# Altium schematic symbol library UWRT_Schematic_Library_2020.SchLib: 766 symbols (part 1 of 8)
Pins are listed as number, name and electrical type; pins without a type are passive.

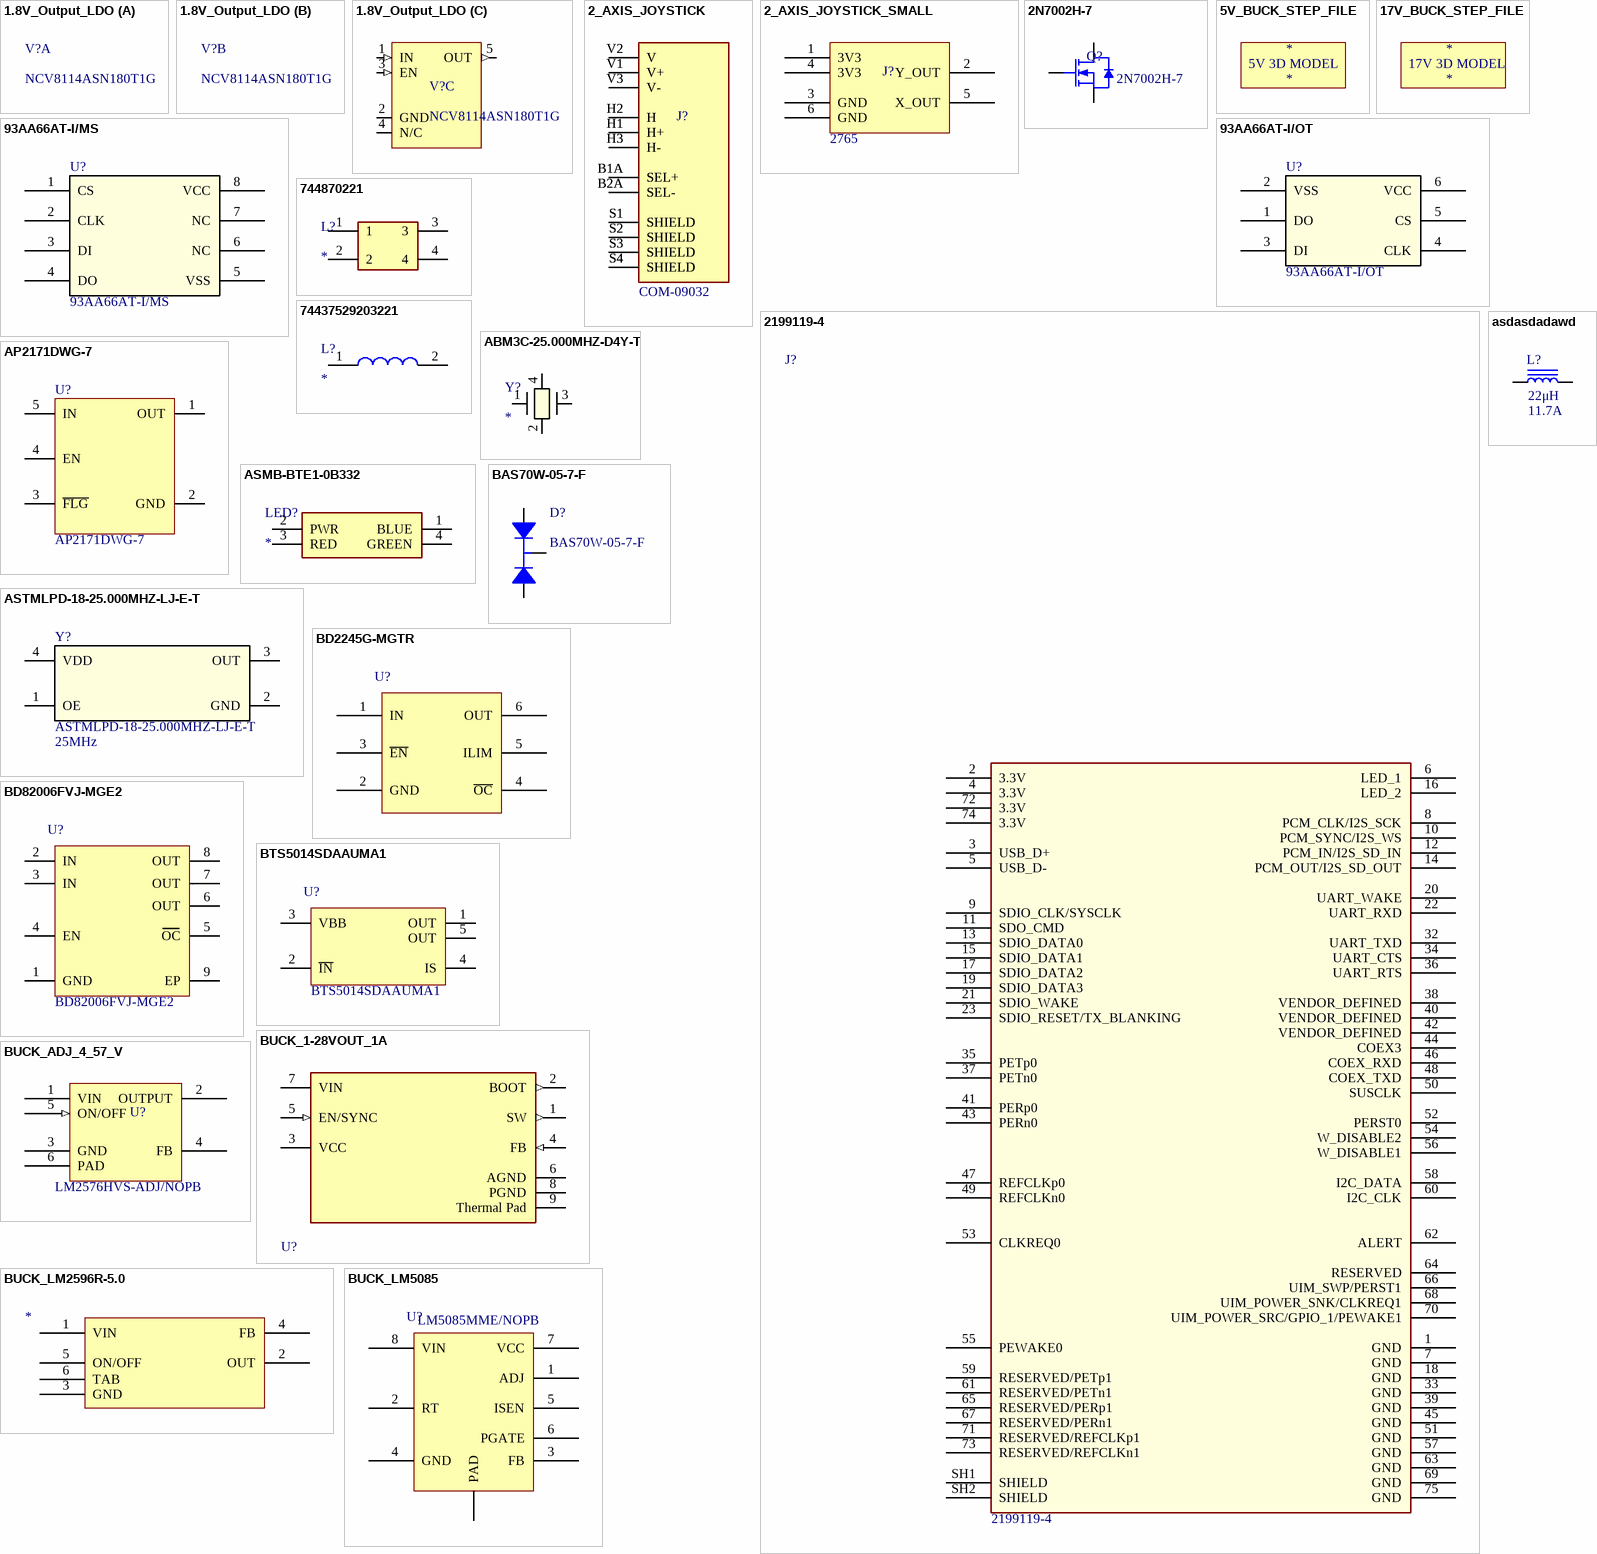
[diagram p0: symbols 1.8V_Output_LDO to BUCK_LM5085]

## 1.8V_Output_LDO
designator V?, comment NCV8114ASN180T1G
Linear Voltage Regulator IC Positive Fixed 1 Output 300mA 5-TSOP; Manufacture: onsemi; Output voltage: 1.8V; Manufacture part number: NCV8114ASN180T1G; Package: SOT-23-5 Thin, TSOT-23-5; Mounting type: Surface Mount; Supplier: Digikey; ComponentLink1Description: Datasheet; ComponentLink1URL: https://www.digikey.ca/en/products/detail/onsemi/NCV8114ASN180T1G/7066765
footprint 1.8V_Output_LDO (Linear Voltage Regulator IC Positive Fixed 1 Output 300mA 5-TSOP)
part C pins: 1 IN (in), 2 GND, 3 EN (in), 4 N/C, 5 OUT (out)

## 2_AXIS_JOYSTICK
designator J?  Manufacturer Part Number 1: COM-09032
JOYSTICK 10K OHM 2 AXIS TH; Manufacturer 1: SparkFun; Supplier 1: Digi-Key; Supplier Part Number 1: 1568-1526-ND; Verified: No; Mounting Type: TH; Package/Footprint: TH; LCSC Part #: *
footprint 2_AXIS_JOYSTICK
pins: B1A SEL+, B1A SEL+, B2A SEL-, B2A SEL-, H1 H+, H1 H+, H2 H, H2 H, H3 H-, H3 H-, S1 SHIELD, S1 SHIELD, S2 SHIELD, S2 SHIELD, S3 SHIELD, S3 SHIELD, S4 SHIELD, S4 SHIELD, V1 V+, V1 V+, V2 V, V2 V, V3 V-, V3 V-

## 2_AXIS_JOYSTICK_SMALL
designator J?  Manufacturer Part Number 1: 2765  (hidden comment: 2_AXIS_JOYSTICK_SMALL)
JOYSTICK 10K OHM 2 AXIS TH; Manufacturer 1: Adafruit Industries LLC; Supplier 1: Digi-Key; Mounting Type: TH; Supplier Part Number 1: 1528-1730-ND; Package/Footprint: TH
footprint 2_AXIS_JOYSTICK_SMALL
pins: 1 3V3, 2 Y_OUT, 3 GND, 4 3V3, 5 X_OUT, 6 GND

## 2N7002H-7
designator Q?  Manufacturer Part Number 1: 2N7002H-7
MOSFET N-CH 60V 170MA SOT23; Manufacturer 1: Diodes Incorporated; Package/Footprint: SOT-23; Vgs (Max): ±20V; Supplier 1: Digi-Key; Mounting Type: SMD; Supplier Part Number 1: 2N7002H-7DICT-ND; Id: 170mA; Vdss: 60V; Verified: No
footprint SOT23-3 (SOT23, 3-Leads, Body 2.90x2.30mm, Pitch 0.95mm, IPC Medium Density)
pins: 1 GATE, 2 SOURCE, 3 DRAIN

## 5V_BUCK_STEP_FILE
designator *
footprint 5V_BUCK_3D_MODEL
text: 5V 3D MODEL

## 17V_BUCK_STEP_FILE
designator *
footprint 17V_3D_MODEL
text: 17V 3D MODEL

## 93AA66AT-I/MS
designator U?  Manufacturer Part Number 1: 93AA66AT-I/MS
IC EEPROM 4KBIT SPI 2MHZ 8MSOP; Manufacturer 1: Microchip Technology; Supplier 1: Digi-Key; Supplier Part Number 1: 93AA66AT-I/MS-ND
footprint SOP65P490X110-8N
pins: 1 CS, 2 CLK, 3 DI, 4 DO, 5 VSS, 6 NC, 7 NC, 8 VCC

## 93AA66AT-I/OT
designator U?  Manufacturer Part Number 1: 93AA66AT-I/OT
IC EEPROM 4KBIT SPI 2MHZ SOT23-6; Manufacturer 1: Microchip Technology; Supplier 1: Digi-Key; Supplier Part Number 1: 93AA66AT-I/OTCT-ND
footprint SOT-23-6_MC_MCH
pins: 1 DO, 2 VSS, 3 DI, 4 CLK, 5 CS, 6 VCC

## 2199119-4
designator J?  Manufacturer Part Number 1: 2199119-4
CONN M.2 FEMALE 67POS 0.020 GOLD; Manufacturer 1: TE Connectivity; Number of Positions: 67; Pitch: 0.020" (0.50mm); Supplier 1: Digi-Key; Supplier Part Number 1: A115900CT-ND; Gender: Female
footprint TE_2199119-4
pins: 1 GND, 2 3.3V, 3 USB_D+, 4 3.3V, 5 USB_D-, 6 LED_1, 7 GND, 8 PCM_CLK/I2S_SCK, 9 SDIO_CLK/SYSCLK, 10 PCM_SYNC/I2S_WS, 11 SDO_CMD, 12 PCM_IN/I2S_SD_IN, 13 SDIO_DATA0, 14 PCM_OUT/I2S_SD_OUT, 15 SDIO_DATA1, 16 LED_2, 17 SDIO_DATA2, 18 GND, 19 SDIO_DATA3, 20 UART_WAKE, 21 SDIO_WAKE, 22 UART_RXD, 23 SDIO_RESET/TX_BLANKING, 32 UART_TXD, 33 GND, 34 UART_CTS, 35 PETp0, 36 UART_RTS, 37 PETn0, 38 VENDOR_DEFINED, 39 GND, 40 VENDOR_DEFINED, 41 PERp0, 42 VENDOR_DEFINED, 43 PERn0, 44 COEX3, 45 GND, 46 COEX_RXD, 47 REFCLKp0, 48 COEX_TXD, 49 REFCLKn0, 50 SUSCLK, 51 GND, 52 PERST0, 53 CLKREQ0, 54 W_DISABLE2, 55 PEWAKE0, 56 W_DISABLE1, 57 GND, 58 I2C_DATA, 59 RESERVED/PETp1, 60 I2C_CLK, 61 RESERVED/PETn1, 62 ALERT, 63 GND, 64 RESERVED, 65 RESERVED/PERp1, 66 UIM_SWP/PERST1, 67 RESERVED/PERn1, 68 UIM_POWER_SNK/CLKREQ1, 69 GND, 70 UIM_POWER_SRC/GPIO_1/PEWAKE1, 71 RESERVED/REFCLKp1, 72 3.3V, 73 RESERVED/REFCLKn1, 74 3.3V, 75 GND, SH1 SHIELD, SH2 SHIELD

## 744870221
designator L?
Inductor; Manufacturer_Name: Wurth Elektronik; Manufacturer_Part_Number: 744870221; Mouser Part Number: 710-744870221; Mouser Price/Stock: https://www.mouser.co.uk/ProductDetail/Wurth-Elektronik/744870221?qs=%252B97ACBfLqz9r9ZtdSN1sow%3D%3D
footprint WE-DD_12XX_CROSSED12
pins: 1, 2, 3, 4

## 74437529203221
designator L?
Inductor; Manufacturer_Name: Wurth Elektronik; Manufacturer Part Number 1: 74437529203221; Datasheet Link: https://www.mouser.com/datasheet/2/445/74437529203221-1280418.pdf; Height: 20.5mm; Mouser Part Number: 710-74437529203221; Mouser Price/Stock: https://www.mouser.co.uk/ProductDetail/Wurth-Elektronik/74437529203221?qs=f9yNj16SXrLAROUwbKRDKA%3D%3D
footprint 74437529203221
pins: 1, 2

## ABM3C-25.000MHZ-D4Y-T
designator Y?
No Description Available; Mfr_Name: Abracon
footprint CRYSTAL_ABM3C_ABR
pins: 1, 2 (power), 3, 4 (power)

## AP2171DWG-7
designator U?  Manufacturer Part Number 1: AP2171DWG-7
IC PWR SWITCH P-CHAN 1:1 SOT25; Manufacturer 1: Diodes Incorporated; Voltage - Load: 2.7V - 5.5V; Current - Output (Max): 1A; Rds On (Typ): 95mOhm; Supplier 1: Digi-Key; Supplier Part Number 1: AP2171DWG-7DICT-ND; Package: SOT-25
footprint AP2171DWG-7
pins: 1 OUT, 2 GND, 3 ~{FLG}, 4 EN, 5 IN

## asdasdadawd
designator L?  Current Rating: 11.7A  Inductance: 22μH
INDUCTOR 22UH 11.7A 22.27 MOHM; Manufacturer 1: Vishay Dale; Manufacturer Part Number 1: IHLP6767GZER220M51; DC Resistance (DCR): 22.27mR; Inductance Tolerance: 20%; Saturation Current: 11A; Supplier 1: Digi-Key; Supplier Part Number 1: 541-1369-1-ND; Mounting Type: SMD
footprint IND_VISHAY_IHLP6767GZ51
pins: 1, 2

## ASMB-BTE1-0B332
designator LED?
LED RGB DIFFUSED 4PLCC SMD; Manufacturer_Name: Avago Technologies; Manufacturer Part Number 1: ASMB-BTE1-0B332; Datasheet Link: https://docs.broadcom.com/doc/AV02-4236EN; Height: 2.1mm; Mouser Part Number: 630-ASMB-BTE1-0B332; Mouser Price/Stock: https://www.mouser.co.uk/ProductDetail/Broadcom-Avago/ASMB-BTE1-0B332?qs=ToP8pWlZ0bOzYR3dfJnh3g%3D%3D
footprint ASMBBTE10B332
pins: 1 BLUE, 2 PWR, 3 RED, 4 GREEN

## ASTMLPD-18-25.000MHZ-LJ-E-T
designator Y?  value 25MHz  Manufacturer Part Number 1: ASTMLPD-18-25.000MHZ-LJ-E-T
MEMS OSC XO 25.0000MHZ LVCMOS; Manufacturer 1: Abracon; Supplier 1: Digi-Key; Supplier Part Number 1: 535-13096-1-ND
footprint ASTMLPE_ABR
pins: 1 OE, 2 GND, 3 OUT, 4 VDD

## BAS70W-05-7-F
designator D?  Manufacturer Part Number 1: BAS70W-05-7-F
DIODE ARRAY SCHOTTKY 70V SOT323; Manufacturer 1: Diodes Incorporated; Diode Configuration: 1 Pair Common Cathode; Current - Average Rectified (Io) (per diode): 70mA; Voltage - Forward (Vf) (Max) @ If: 1V @ 15mA; Current - Reverse Leakage @ Vr: 100nA @ 50V; Supplier 1: Digi-Key; Supplier Part Number 1: BAS70W-05FDICT-ND; Diode Type: Schottky; Package: SOT-323; Voltage - DC Reverse (Vr) (Max): 70V
footprint SOT323_BAS70W-05-7-F
pins: 1, 2, 3

## BD2245G-MGTR
designator U?
IC PWR SWITCH N-CHAN 1:1 6SSOP; Manufacturer 1: Rohm Semiconductor; Manufacturer Part Number 1: BD2245G-MGTR; Voltage - Load: 2.8V - 5.5V; Current - Output (Max): 1.7A; Rds On (Typ): 100mOhm; Supplier 1: Digi-Key; Supplier Part Number 1: BD2245G-MGCT-ND; Package: SOT23-6
footprint BD2245G-MGTR
pins: 1 IN, 2 GND, 3 ~{EN}, 4 ~{OC}, 5 ILIM, 6 OUT

## BD82006FVJ-MGE2
designator U?  Manufacturer Part Number 1: BD82006FVJ-MGE2
IC PWR SWITCH N-CHAN 1:1 8TSSOP; Manufacturer 1: Rohm Semiconductor; Package/Footprint: 8-TSSOP; Rds On (Typ): 70mOhm; Mounting Type: SMD; Supplier 1: Digi-Key; Supplier Part Number 1: BD82006FVJ-MGE2CT-ND
footprint 8-TSSOP-BJ
pins: 1 GND, 2 IN, 3 IN, 4 EN, 5 OC (oc), 6 OUT, 7 OUT, 8 OUT, 9 EP

## BTS5014SDAAUMA1
designator U?  Manufacturer Part Number 1: BTS5014SDAAUMA1
IC PWR SWITCH N-CHAN 1:1 TO252-5; Manufacturer 1: Infineon Technologies; Package/Footprint: TO-252-5; Mounting Type: SMD; Supplier 1: Digi-Key; Supplier Part Number 1: BTS5014SDAAUMA1CT-ND
footprint D2PAK-4
pins: 1 OUT, 2 ~{IN}, 3 VBB, 4 IS, 5 OUT

## BUCK_1-28VOUT_1A
designator U?  (value not drawn)
IC REG BUCK ADJUSTABLE 1A 8SOPWR; Manufacturer 1: Texas Instruments; Manufacturer Part Number 1: LMR23610ADDAR; Supplier 1: Digi-Key; Supplier Part Number 1: 296-47267-1-ND
footprint 8-SO PowerPad
pins: 1 SW (out), 2 BOOT (out), 3 VCC (power), 4 FB (in), 5 EN/SYNC (in), 6 AGND (power), 7 VIN (power), 8 PGND (power), 9 Thermal Pad (power)

## BUCK_ADJ_4_57_V
designator U?  Manufacturer Part Number: LM2576HVS-ADJ/NOPB
Switching Regulator, Voltage-mode, 7.5A, 63kHz Switching Freq-Max, BIPolar, PSSO5; Manufacturer: TI National Semiconductor; Package Body Material: Plastic; Control Technique: PULSE WIDTH MODULATION; Max Input Voltage: 60V; Min Input Voltage: 8V; Nominal Input Voltage: 12V; Number of Functions: 1; Package Equivalence Code: SMSIP5H,.6,67TB; Switcher Configuration: BUCK; Time @ Peak Reflow Temperature-Max (s): 30s; Qualification Status: Not Qualified; Supplier 1: Digi-Key; RoHS: Yes; Category: Power Supply Modules; Stock 1: 1907; Pricing 1: 1=9.24000, 10=8.34300, 25=7.95520, 100=6.90760, 250=6.59712, 500=6.40676 (USD); Package Code: TO-263; Number of Pins: 5; Package Shape: Rectangular; Terminal Finish: Tin; Min Operating Temperature: -40°C; Max Operating Temperature: 125°C; JESD-609 Code: e3; Analog IC - Other Type: SWITCHING REGULATOR; Control Mode: VOLTAGE-MODE; JESD-30 Code: R-PSSO-G5; Moisture Sensitivity Level: 3; Max Output Current: 7.5A; Package Style: SMALL OUTLINEMeter; Peak Reflow Temperature (Cel): 245°C; Surface Mount: Yes; Switching Frequency-Max: 63kHz; Technology: BIPOLAR; Terminal Form: Gull Wing; Terminal Position: SINGLE; Length: 10.16mm; Width: 8.635mm; Height - Seated (Max): 4.8mm; Terminal Pitch: 1.7mm; Temperature Grade: AUTOMOTIVE; REACH SVHC: No SVHC; RoHS Compliant: Yes; ComponentLink1URL: https://datasheet.ciiva.com:443/pdfs/VipMasterIC/IC/NATL/NATLE100002/NATLS13855-1.pdf?src-supplier=IHS+Markit; ComponentLink1Description: https://datasheet.ciiva.com:443/pdfs/VipMasterIC/IC/NATL/NATLE100002/NATLS13855-1.pdf?src-supplier=IHS+Markit; ComponentLink2URL: https://datasheet.ciiva.com/27055/1992558-27055825.pdf?src-supplier=Jameco; ComponentLink2Description: https://datasheet.ciiva.com/27055/1992558-27055825.pdf?src-supplier=Jameco; ComponentLink3URL: https://datasheet.ciiva.com/14150/dznatsemico-schaltr-lm2576-en-14150697.pdf?src-supplier=Distrelec; ComponentLink3Description: https://datasheet.ciiva.com/14150/dznatsemico-schaltr-lm2576-en-14150697.pdf?src-supplier=Distrelec; ComponentLink4URL: https://datasheet.ciiva.com/15112/getdatasheetpartid-55583-15112655.pdf?src-supplier=Verical; ComponentLink4Description: https://datasheet.ciiva.com/15112/getdatasheetpartid-55583-15112655.pdf?src-supplier=Verical; ComponentLink5URL: https://datasheet.ciiva.com/16466/lm2576-16466300.pdf?src-supplier=Avnet+Asia; ComponentLink5Description: https://datasheet.ciiva.com/16466/lm2576-16466300.pdf?src-supplier=Avnet+Asia; ComponentLink6URL: https://datasheet.ciiva.com/6596/lm2576hv-6596079.pdf?src-supplier=Digi-Key; ComponentLink6Description: https://datasheet.ciiva.com/6596/lm2576hv-6596079.pdf?src-supplier=Digi-Key; ComponentLink7URL: https://datasheet.ciiva.com/22669/1849802-22669437.pdf?src-supplier=Element14; ComponentLink7Description: https://datasheet.ciiva.com/22669/1849802-22669437.pdf?src-supplier=Element14; Supplier Part Number 1: LM2576HVS-ADJ/NOPB-ND
footprint D2PAK-5
pins: 1 VIN (power), 2 OUTPUT (power), 3 GND (power), 4 FB, 5 ON/OFF (in), 6 PAD (power)

## BUCK_LM2596R-5.0
designator *  (value not drawn)
IC REG BUCK 5V 3A TO220-5; Manufacturer Part Number 1: LM2596R-5.0; Manufacturer 1: HTC Korea TAEJIN Tech; Min Voltage Input: 4.5V; Max Voltage Input: 40V; Voltage Output: 5V; Current Output: 3A; Supplier 1: LCSC; LCSC Part Number: C77782; Datasheet: https://lcsc.com/search?q=WJ127-5.0-3P
footprint LM2596S-5.0
pins: 1 VIN, 2 OUT, 3 GND, 4 FB, 5 ON/OFF, 6 TAB

## BUCK_LM5085
designator U?, comment Manufacturer Part Number 1: LM5085MME/NOPB  (hidden comment: BUCK_LMR14050SDDAR)
IC REG CTRLR BUCK 8VSSOP; Manufacturer 1: Texas Instruments; Output Type: Transistor Driver; Output Configuration: Positive; Package/Footprint: 8-VSSON; Mounting Type: SMD; Supplier 1: Digi-Key; Supplier Part Number 1: LM5085MME/NOPBCT-ND
footprint 8-VSSOP (Texas Instruments 8-SO PowerPad)
pins: 1 ADJ, 2 RT, 3 FB, 4 GND, 5 ISEN, 6 PGATE, 7 VCC, 8 VIN, 9 PAD "Thermal Pad, connect to GND"

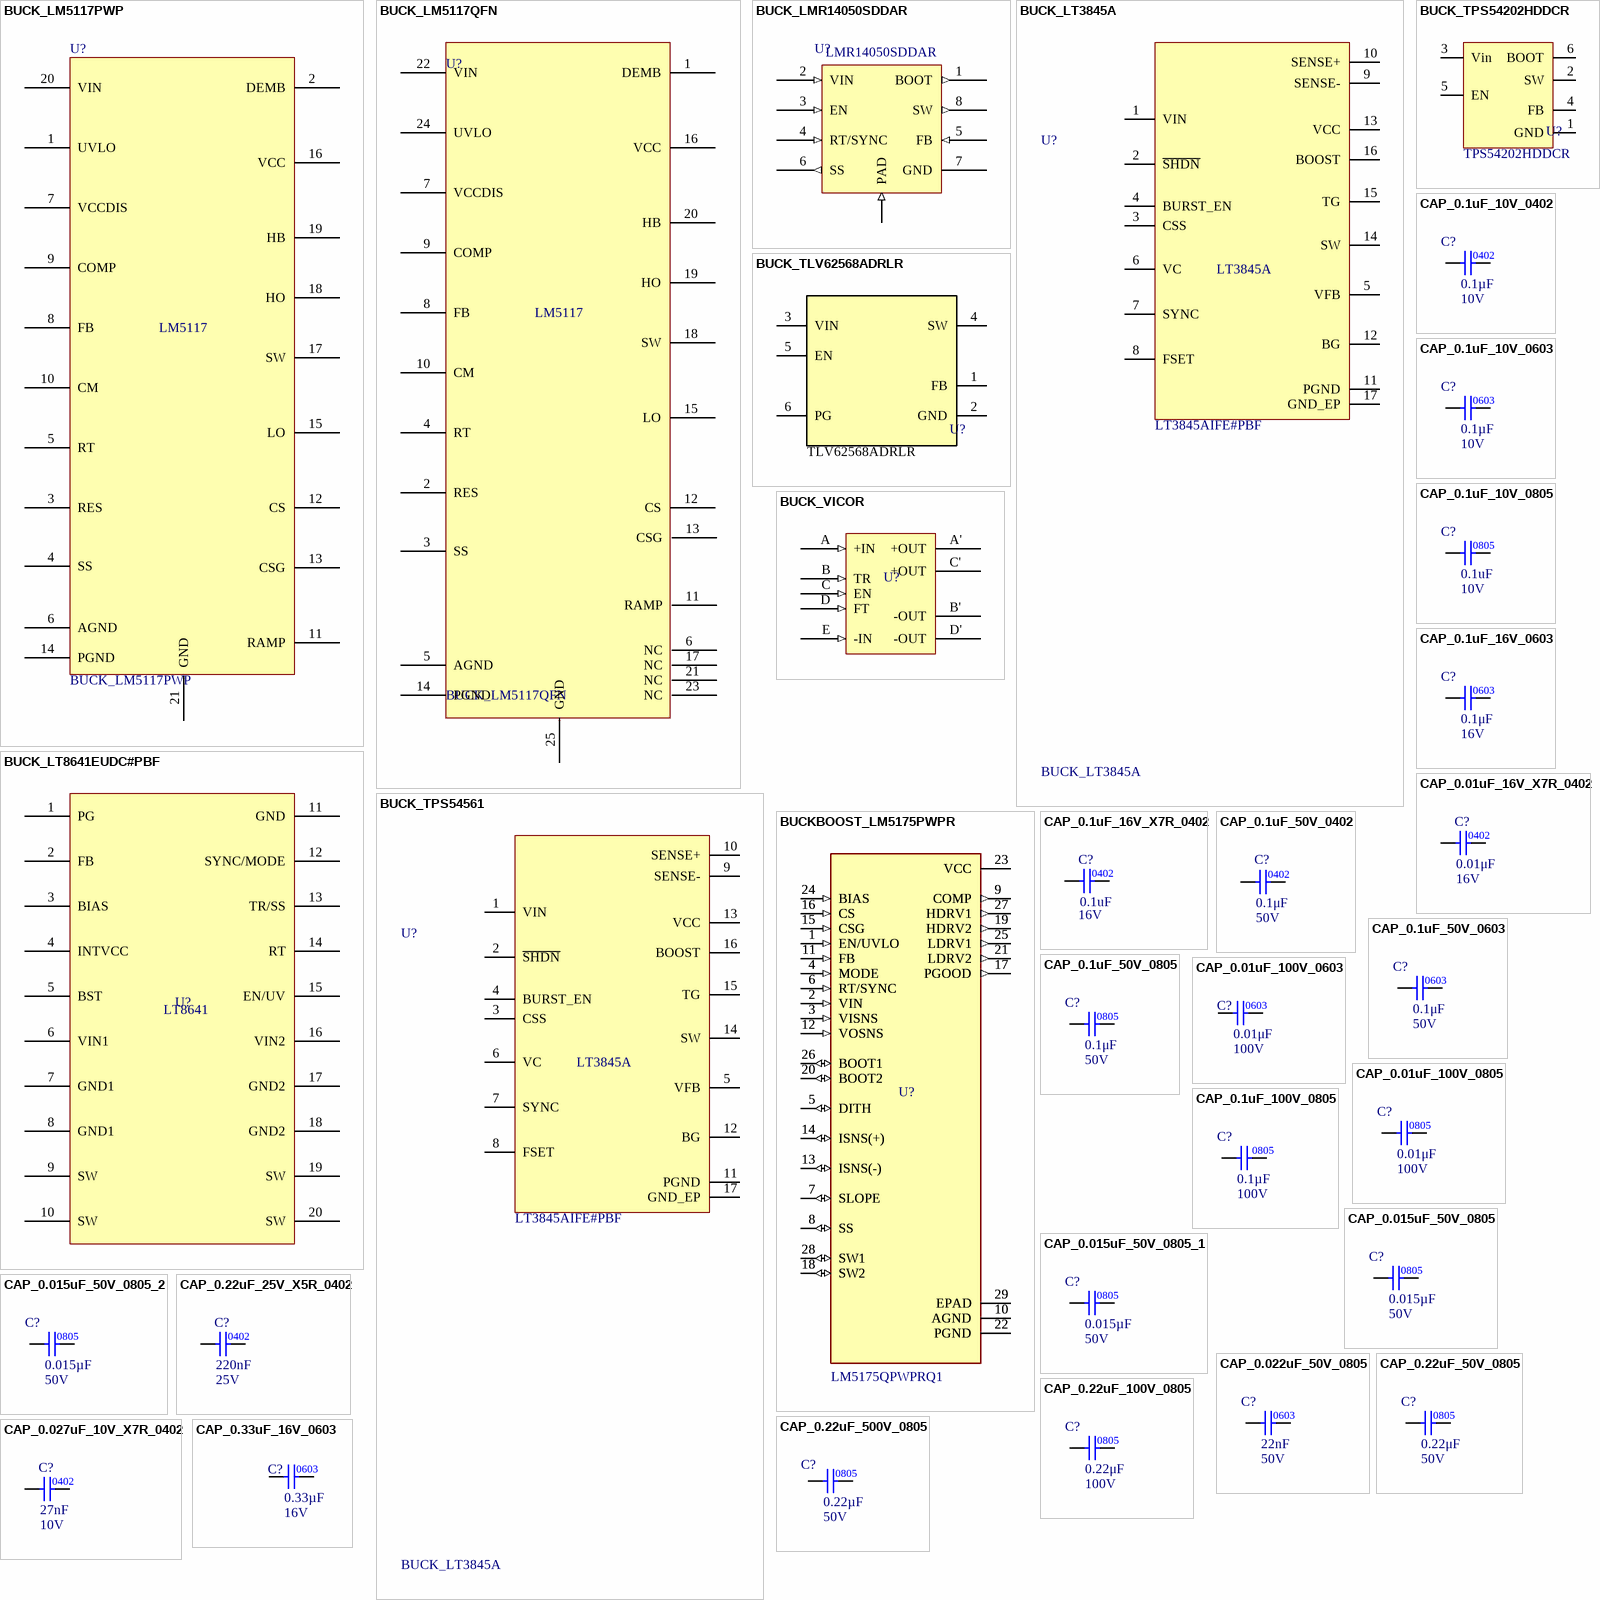
[diagram p1: symbols BUCK_LM5117PWP to CAP_0.33uF_16V_0603]

## BUCK_LM5117PWP
designator U?
IC REG CTRLR BUCK 20TSSOP; Manufacturer 1: Texas Instruments; Manufacturer Part Number 1: LM5117PMH/NOPB; Package/Footprint: 20-HTSSOP; Mounting Type: SMD; Supplier 1: Digi-Key; Supplier Part Number 1: 296-41310-1-ND
footprint HTSSOP
pins: 1 UVLO, 2 DEMB, 3 RES, 4 SS, 5 RT, 6 AGND, 7 VCCDIS, 8 FB, 9 COMP, 10 CM, 11 RAMP, 12 CS, 13 CSG, 14 PGND, 15 LO, 16 VCC, 17 SW, 18 HO, 19 HB, 20 VIN, 21 GND
text: LM5117

## BUCK_LM5117QFN
designator U?
IC REG CTRLR BUCK 24WQFN; Manufacturer 1: Texas Instruments; Manufacturer Part Number 1: LM5117PSQ/NOPB; Package/Footprint: 24-WQFN; Mounting Type: SMD; Supplier 1: Mouser; Supplier Part Number 1: 595-LM5117PSQE/NOPB
footprint 24-WQFN
pins: 1 DEMB, 2 RES, 3 SS, 4 RT, 5 AGND, 6 NC, 7 VCCDIS, 8 FB, 9 COMP, 10 CM, 11 RAMP, 12 CS, 13 CSG, 14 PGND, 15 LO, 16 VCC, 17 NC, 18 SW, 19 HO, 20 HB, 21 NC, 22 VIN, 23 NC, 24 UVLO, 25 GND
text: LM5117

## BUCK_LMR14050SDDAR
designator U?  Manufacturer Part Number 1: LMR14050SDDAR  (hidden comment: BUCK_LMR14050SDDAR)
IC REG BUCK ADJUSTABLE 5A 8SOPWR; Manufacturer 1: Texas Instruments; Output Configuration: Positive; Quiescent Current: 40uA; Package/Footprint: 8-PowerSOIC; Supplier 1: Digi-Key; Mounting Type: SMD; Output Type: Adjustable; Supplier Part Number 1: 296-44322-1-ND; LCSC Part #: C155484
footprint 8-PowerSOIC (Texas Instruments 8-SO PowerPad)
pins: 1 BOOT (out), 2 VIN (in), 3 EN (in), 4 RT/SYNC (in), 5 FB (in), 6 SS (out), 7 GND (power), 8 SW (out), 9 PAD (in) "Thermal Pad, connect to GND"

## BUCK_LT3845A
designator U?  Manufacturer Part Number 1: LT3845AIFE#PBF
IC REG CTRLR BUCK 16TSSOP; Manufacturer 1: Analog Devices Inc.; Package/Footprint: 16-TSSOP-EP; Mounting Type: SMD; Supplier 1: Mouser; Supplier Part Number 1: 584-LT3845AIFE#PBF
footprint LT3845AIFE#PBF
pins: 1 VIN, 2 ~{SHDN}, 3 CSS, 4 BURST_EN, 5 VFB, 6 VC, 7 SYNC, 8 FSET, 9 SENSE-, 10 SENSE+, 11 PGND (power), 12 BG, 13 VCC, 14 SW, 15 TG, 16 BOOST, 17 GND_EP (power)
text: LT3845A

## BUCK_LT8641EUDC#PBF
designator U?  (value not drawn)
IC REG BUCK ADJ 3.5A 20QFN; Manufacturer 1: Analog Devices Inc.; Package/Footprint: 20-QFN; Supplier 1: Digi-Key; Supplier Part Number 1: LT8641EUDC#PBF-ND; Manufacturer Part Number 1: LT8641EUDC#PBF; Mounting Type: SMD; LCSC: *
footprint LT8641EUDC#TRPBF (Buck Converter)
pins: 1 PG, 2 FB, 3 BIAS, 4 INTVCC, 5 BST, 6 VIN1, 7 GND1, 8 GND1, 9 SW, 10 SW, 11 GND, 12 SYNC/MODE, 13 TR/SS, 14 RT, 15 EN/UV, 16 VIN2, 17 GND2, 18 GND2, 19 SW, 20 SW
text: LT8641

## BUCK_TLV62568ADRLR
designator U?  Manufacturer Part Number 1: TLV62568ADRLR  (hidden comment: BUCK_TLV62568ADRLR)
IC REG BUCK ADJUSTABLE 2A SOT563; Manufacturer 1: Texas Instruments; Package/Footprint: SOT-563; Supplier 1: Digi-Key; Supplier Part Number 1: 296-50407-1-ND; Mounting Type: SMD; Verified: No
footprint SOT50P160X60-6N
pins: 1 FB, 2 GND (power), 3 VIN (power), 4 SW (power), 5 EN, 6 PG (oc)

## BUCK_TPS54202HDDCR
designator U?  Manufacturer Part Number 1: TPS54202HDDCR  (hidden comment: BUCK_TPS54202HDDCR)
IC REG BUCK ADJ 2A TSOT23-6; Manufacturer 1: Texas Instruments; Package/Footprint: TSOT-23-6; Supplier 1: Digi-Key; Verified: No; Mounting Type: SMD; Supplier Part Number 1: 296-44396-1-ND; LCSC Part #: *
footprint SOT23-6 (SOT23, 6-Leads, Body 3.05x1.75mm, Pitch 0.95mm, IPC Medium Density)
pins: 1 GND, 2 SW, 3 Vin, 4 FB, 5 EN, 6 BOOT

## BUCK_TPS54561
designator U?, comment BUCK_LT3845A  Manufacturer Part Number 1: LT3845AIFE#PBF
IC REG CTRLR BUCK 16TSSOP; Manufacturer 1: Analog Devices Inc.; Package/Footprint: 16-TSSOP-EP; Mounting Type: SMD; Supplier 1: Mouser; Supplier Part Number 1: 584-LT3845AIFE#PBF
footprint LT3845AIFE#PBF
pins: 1 VIN, 2 ~{SHDN}, 3 CSS, 4 BURST_EN, 5 VFB, 6 VC, 7 SYNC, 8 FSET, 9 SENSE-, 10 SENSE+, 11 PGND (power), 12 BG, 13 VCC, 14 SW, 15 TG, 16 BOOST, 17 GND_EP (power)
text: LT3845A

## BUCK_VICOR
designator U?  (value not drawn)
VICOR DC DC CONVERTER 5V 80W; Manufacturer 1: Vicor Corporation; Manufacturer Part Number 1: DCM3623T50T0680T00; Package/Footprint: TH; Supplier 1: Digi-Key; Supplier Part Number 1: 1102-5585-ND; Mounting Type: TH
footprint DCM3623T50T0680 (DC to DC Converter)
pins: A +IN (in), A' +OUT, B TR (in), B' -OUT, C EN (in), C' +OUT, D FT (in), D' -OUT, E -IN (in)

## BUCKBOOST_LM5175PWPR
designator U?  Manufacturer Part Number 1: LM5175QPWPRQ1  (hidden comment: BUCKBOOST_LM5175PWPR)
IC REG CTRLR BUCK-BOOST 28HTSSOP; Manufacturer 1: Texas Instruments; Supply Voltage: 3.5V - 42V; Switching Frequency: 100kHz - 600kHz; Synchronous Rectifier: Yes; Control Features: Enable, Frequency Control, Power Good, Soft Start; Package/Footprint: 28-PowerTSSOP; Number of Outputs: 1; Supplier 1: Digi-Key; Supplier Part Number 1: 296-44175-1-ND; Clock Sync: Yes; Operating Temperature: -40°C - 150°C (TJ); Mounting Type: SMD; LCSC Part #: C113356
footprint IC_TPS61196PWPRQ1
pins: 1 EN/UVLO (in), 1 EN/UVLO (in), 2 VIN (in), 2 VIN (in), 3 VISNS (in), 3 VISNS (in), 4 MODE (in), 4 MODE (in), 5 DITH (io), 5 DITH (io), 6 RT/SYNC (in), 6 RT/SYNC (in), 7 SLOPE (io), 7 SLOPE (io), 8 SS (io), 8 SS (io), 9 COMP (out), 9 COMP (out), 10 AGND (power), 10 AGND (power), 11 FB (in), 11 FB (in), 12 VOSNS (in), 12 VOSNS (in), 13 ISNS(-) (io), 13 ISNS(-) (io), 14 ISNS(+) (io), 14 ISNS(+) (io), 15 CSG (in), 15 CSG (in), 16 CS (in), 16 CS (in), 17 PGOOD (out), 17 PGOOD (out), 18 SW2 (io), 18 SW2 (io), 19 HDRV2 (out), 19 HDRV2 (out), 20 BOOT2 (io), 20 BOOT2 (io), 21 LDRV2 (out), 21 LDRV2 (out), 22 PGND (power), 22 PGND (power), 23 VCC (power), 23 VCC (power), 24 BIAS (in), 24 BIAS (in), 25 LDRV1 (out), 25 LDRV1 (out), 26 BOOT1 (io), 26 BOOT1 (io), 27 HDRV1 (out), 27 HDRV1 (out), 28 SW1 (io), 28 SW1 (io), 29 EPAD (power), 29 EPAD (power)

## CAP_0.1uF_10V_0402
designator C?  value 0.1µF  Voltage Rating: 10V
CAP CER 0.1UF 10V X7R 0402; Manufacturer 1: Murata Electronics; Manufacturer Part Number 1: GRM155R71A104KA01D; Package/Footprint: 0402; Supplier 1: Digi-Key; Supplier Part Number 1: 490-6321-1-ND
footprint CAP0402 (Chip Capacitor, Body 1x0.5mm, Height 0.35mm, IPC Medium Density)
pins: 1, 2

## CAP_0.1uF_10V_0603
designator C?  value 0.1µF  Voltage Rating: 10V
CAP CER 0.1UF 10V X7R 0402; Manufacturer 1: Murata Electronics; Manufacturer Part Number 1: GRM155R71A104KA01D; Package/Footprint: 0402; Supplier 1: Digi-Key; Supplier Part Number 1: 490-6321-1-ND
footprint CAP0603
pins: 1, 2
text: 0603

## CAP_0.1uF_10V_0805
designator C?  value 0.1uF  Voltage Rating: 10V
CAP CER 0.1uF 10V 0805; Manufacturer 1: KEMET; Manufacturer Part Number 1: C0805C104K8RAC7800; Package/Footprint: 0805; Supplier 1: Digi-Key; Supplier Part Number 1: 399-C0805C104K8RAC7800DKR-ND
footprint CAP0805 (Chip Capacitor, Body 2.0x1.2mm, Height 0.45mm, IPC Medium Density)
pins: 1, 2

## CAP_0.1uF_16V_0603
designator C?  value 0.1μF  Voltage Rating: 16V
CAP CER 0.1UF 16V X7R 0603; Manufacturer Part Number 1: CC0603KRX7R7BB104; Manufacturer 1: Yageo; Package: 0603; Supplier Part Number 1: 311-1088-1-ND; Supplier 1: Digi-Key; Dielectric: X7R
footprint CAP0603
pins: 1, 2

## CAP_0.01uF_16V_X7R_0402
designator C?  Capacitance: 0.01μF  Voltage Rating: 16V
CAP CER 0.01uF 16V X7R 0402; Manufacturer: KEMET; Manufacturer Part Number: C0402C103J4RACTU; Supplier 1: Digi-Key; Supplier Part Number 1: 399-1039-1-ND; Mounting Type: Surface Mount
footprint CAP0402 (Chip Capacitor, Body 1x0.5mm, Height 0.35mm, IPC Medium Density)
pins: 1, 2
text: 0402

## CAP_0.1uF_16V_X7R_0402
designator C?  Voltage Rating: 16V  Capacitance: 0.1uF
CAP CER 0.1UF 16V X7R 0402; Supplier 1: Digi-Key; Mounting Type: Surface Mount; Package: 0402
footprint CAP0402 (Chip Capacitor, Body 1x0.5mm, Height 0.35mm, IPC Medium Density)
pins: 1, 2

## CAP_0.1uF_50V_0402
designator C?  value 0.1μF  Voltage Rating: 50V
CAP CER 0.1UF 50V X7R 0402; Manufacturer Product Number 1: C1005X7R1H104M050BE; Manufacturer 1: TDK Corporation; Package: 0402; Supplier 1: Digi-Key; Supplier Part Number 1: 445-173645-1-ND
footprint CAP0402 (Chip Capacitor, Body 1x0.5mm, Height 0.35mm, IPC Medium Density)
pins: 1, 2

## CAP_0.1uF_50V_0603
designator C?  value 0.1μF  Voltage Rating: 50V
CAP CER 0.1UF 50V X7R 0603; Manufacturer Part Number 1: CC0603KRX7R9BB104; Manufacturer 1: Yageo; Package/Footprint: 0603; Supplier Part Number 1: 311-1344-1-ND; Supplier 1: Digi-Key; Mounting Type: SMD; Dielectric: X7R
footprint CAP0603
pins: 1, 2

## CAP_0.1uF_50V_0805
designator C?  value 0.1μF  Voltage Rating: 50V
CAP CER 0.1UF 50V X7R 0805; Manufacturer 1: Murata Electronics; Manufacturer Part Number 1: GCM21BR71H104KA37K; Package/Footprint: 0805; Mounting Type: SMD; Supplier 1: Digi-Key; Supplier Part Number 1: 490-8049-1-ND; Dielectric: X7R; LCSC Part #: C49678
footprint CAP2012
footprint CAP0805 (Chip Capacitor, Body 2.0x1.2mm, Height 0.45mm, IPC Medium Density)
pins: 1, 2

## CAP_0.01uF_100V_0603
designator C?  value 0.01μF  Voltage Rating: 100V
CAP CER 0.01uF 100V X7R 0603; Manufacturer Part Number 1: GCM188R72A103KA37J; Manufacturer 1: Murata Electronics; Supplier Part Number 1: 490-8028-1-ND; Supplier 1: Digi-Key; Dielectric: X7R
footprint CAP0603
pins: 1, 2
text: 0603

## CAP_0.01uF_100V_0805
designator C?  value 0.01μF  Voltage Rating: 100V
CAP CER 0.01uF 100V X7R 0805; Manufacturer 1: AVX Corporation; Manufacturer Part Number 1: 08051C103KAT2A; Mounting Type: SMD; Supplier 1: Digi-Key; Supplier Part Number 1: 478-1358-1-ND; Package: 0805; LCSC Part #: C1710; Dielectric: X7R
footprint CAP0805 (Chip Capacitor, Body 2.0x1.2mm, Height 0.45mm, IPC Medium Density)
pins: 1, 2

## CAP_0.1uF_100V_0805
designator C?  value 0.1µF  Voltage Rating: 100V
CAP CER 0.1UF 100V X7R 0805; Manufacturer 1: TDK Corporation; Manufacturer Part Number 1: C2012X7R2A104K125AA; Package: 0805; Supplier 1: Digi-Key; Supplier Part Number 1: 445-1418-1-ND
footprint CAP0805 (Chip Capacitor, Body 2.0x1.2mm, Height 0.45mm, IPC Medium Density)
pins: 1, 2

## CAP_0.015uF_50V_0805
designator C?  value 0.015µF  Voltage Rating: 50V
CAP CER 0.015UF 50V C0G 0805; Manufacturer 1: TDK Corporation; Manufacturer Part Number 1: CGA4F2C0G1H153J085AA; Package: 0805; Supplier 1: Digi-Key; Supplier Part Number 1: 445-6948-1-ND
footprint CAP0805 (Chip Capacitor, Body 2.0x1.2mm, Height 0.45mm, IPC Medium Density)
pins: 1, 2

## CAP_0.015uF_50V_0805_1
designator C?  value 0.015µF  Voltage Rating: 50V
CAP CER 0.015UF 50V C0G 0805; Manufacturer 1: TDK Corporation; Manufacturer Part Number 1: CGA4F2C0G1H153J085AA; Package: 0805; Supplier 1: Digi-Key; Supplier Part Number 1: 445-6948-1-ND
footprint CAP0805 (Chip Capacitor, Body 2.0x1.2mm, Height 0.45mm, IPC Medium Density)
pins: 1, 2

## CAP_0.015uF_50V_0805_2
designator C?  value 0.015µF  Voltage Rating: 50V
CAP CER 0.015UF 50V C0G 0805; Manufacturer 1: TDK Corporation; Manufacturer Part Number 1: CGA4F2C0G1H153J085AA; Package: 0805; Supplier 1: Digi-Key; Supplier Part Number 1: 445-6948-1-ND
footprint CAP0805 (Chip Capacitor, Body 2.0x1.2mm, Height 0.45mm, IPC Medium Density)
pins: 1, 2

## CAP_0.22uF_25V_X5R_0402
designator C?  Capacitance: 220nF  Rated DC Voltage (URdc): 25V
CAP CER 0.22UF 25V X5R 0402; Manufacturer: Yageo; Manufacturer Part Number: CC0402KRX5R8BB224; Supplier 1: Digi-Key; Supplier Part Number 1: 311-3341-1-ND; Mount: Surface Mount; Size Code: 0402
footprint CAP0402 (Chip Capacitor, Body 1x0.5mm, Height 0.35mm, IPC Medium Density)
pins: 1, 2

## CAP_0.022uF_50V_0805
designator C?  value 22nF  Voltage Rating: 50V  (hidden comment: CAP_0.022uF_50V_0805)
CAP CER 0.022UF 50V C0G 0805; Manufacturer 1: TDK Corporation; Manufacturer Part Number 1: CGA4J2C0G1H223J125AA; Package/Footprint: 2012; Mounting Type: SMD; Supplier 1: Digi-Key; Supplier Part Number 1: 445-6949-1-ND; LCSC Part #: C1729; Dielectric: C0G
footprint CAP2012
pins: 1, 2
text: 0603

## CAP_0.22uF_50V_0805
designator C?  value 0.22μF  Voltage Rating: 50V
CAP CER 0.22UF 50V X7R 0805; Manufacturer Part Number 1: C0805C224K5RACTU; Manufacturer 1: KEMET; Supplier Part Number 1: 399-3491-1-ND; Supplier 1: Digi-Key; Mounting Type: SMD; Package: 0805; Dielectric: X7R; LCSC Part #: C5378
footprint CAP2012
pins: 1, 2

## CAP_0.22uF_100V_0805
designator C?  value 0.22μF  Voltage Rating: 100V
CAP CER 0.22UF 100V X7R 0805; Manufacturer Part Number 1: HMJ212BB7224KGHT; Manufacturer 1: Taiyo Yuden; Mounting Type: SMD; Package: 0805; Dielectric: X7R; Supplier 1: Digi-Key; Supplier Part Number 1: 587-4221-1-ND
footprint CAP2012
pins: 1, 2

## CAP_0.22uF_500V_0805
designator C?  Voltage Rating: 50V  Capacitance: 0.22µF
CAP CER 0.22UF 50V X7R 0805; Manufacturer 1: Murata; Manufacturer Part Number 1: GRM21BR71H224MA01L; Dielectric: X7R; Supplier 1: Digi-Key; Supplier Part Number 1: 490-1671-1-ND; Package: 0805; Mounting Type: SMD
footprint CAP2012
pins: 1, 2

## CAP_0.027uF_10V_X7R_0402
designator C?  Capacitance: 27nF  Rated DC Voltage (URdc): 10V
CAP CER 0.027UF 10V X7R 0402; Manufacturer: Yageo; Manufacturer Part Number: CC0402KRX7R6BB273; Supplier 1: Digi-Key; Supplier Part Number 1: 311-3794-1-ND; Mounting Type: Surface Mount; Temperature Characteristics Code: X7R; Package: 0402
footprint CAP0402 (Chip Capacitor, Body 1x0.5mm, Height 0.35mm, IPC Medium Density)
pins: 1, 2

## CAP_0.33uF_16V_0603
designator C?  value 0.33µF  Voltage Rating: 16V
CAP CER 0.33UF 16V X7R 0603; Manufacturer Part Number 1: GCM188R71C334KA37D; Manufacturer 1: Murata Electronics North America; Supplier Part Number 1: 490-6050-1-ND; Supplier 1: Digi-Key; Dielectric: X7R
footprint CAP0603
pins: 1, 2
text: 0603

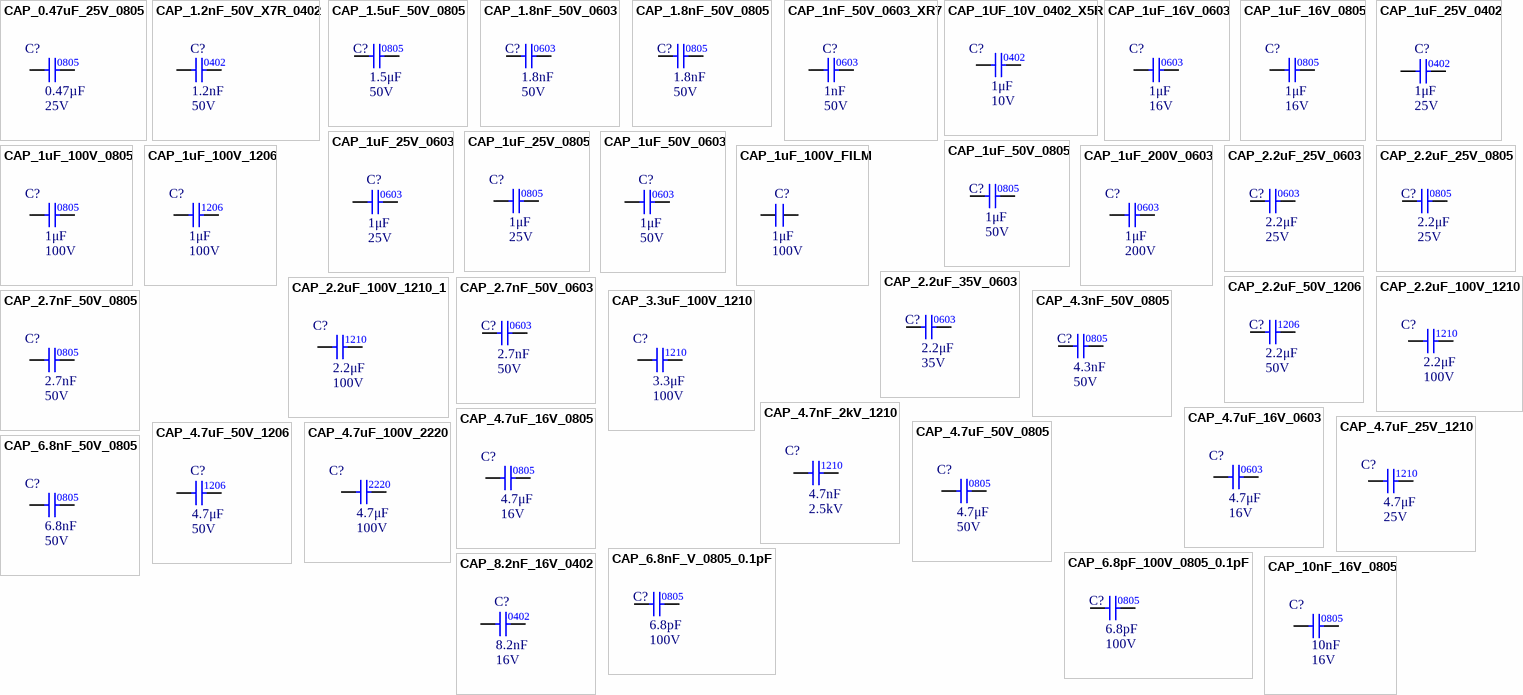
[diagram p2: symbols CAP_0.47uF_25V_0805 to CAP_10nF_16V_0805]

## CAP_0.47uF_25V_0805
designator C?  value 0.47µF  Voltage Rating: 25V
CAP CER 0.47UF 25V X5R 0805; Manufacturer 1: KEMET; Manufacturer Part Number 1: C0805C474K3PAC7800; Package: 0805; Supplier 1: Digi-Key; Supplier Part Number 1: 399-15508-1-ND
footprint CAP0805 (Chip Capacitor, Body 2.0x1.2mm, Height 0.45mm, IPC Medium Density)
pins: 1, 2

## CAP_1.2nF_50V_X7R_0402
designator C?  value 1.2nF  Voltage Rating: 50V
CAP CER 1200PF 50V X7R 0402; Manufacturer: Yageo; Manufacturer Part Number: CC0402JRX7R9BB122; Supplier 1: Digi-Key; Supplier Part Number 1: 311-3762-1-ND; Dielectric: X7R; Package: 0402
footprint CAP0402 (Chip Capacitor, Body 1x0.5mm, Height 0.35mm, IPC Medium Density)
pins: 1, 2

## CAP_1.5uF_50V_0805
designator C?  value 1.5μF  Voltage Rating: 50V
CAP CER 1.5UF 50V X7R 0805; Manufacturer Part Number 1: C2012X7R1H155K125AC; Manufacturer 1: TDK Corporation; Supplier Part Number 1: C2012X7R1H155K125AC; Supplier 1: Digi-Key; Dielectric: X7R
footprint CAP0805 (Chip Capacitor, Body 2.0x1.2mm, Height 0.45mm, IPC Medium Density)
pins: 1, 2
text: 0805

## CAP_1.8nF_50V_0603
designator C?  value 1.8nF  Voltage Rating: 50V
CAP CER 1800PF 50V C0G/NP0 0603; Manufacturer Part Number 1: GRM1885C1H182JA01J; Manufacturer 1: Murata Electronics; Dielectric: C0G; Supplier Part Number 1: 490-6380-1-ND; Supplier 1: Digi-Key
footprint CAP0603
pins: 1, 2
text: 0603

## CAP_1.8nF_50V_0805
designator C?  value 1.8nF  Voltage Rating: 50V
CAP CER 1800PF 50V C0G/NP0 0805; Manufacturer Part Number 1: GRM2165C1H182JA01D; Manufacturer 1: Murata Electronics; Dielectric: C0G; Supplier Part Number 1: 490-1626-1-ND; Supplier 1: Digi-Key
footprint CAP0603
footprint CAP0805 (Chip Capacitor, Body 2.0x1.2mm, Height 0.45mm, IPC Medium Density)
pins: 1, 2
text: 0805

## CAP_1nF_50V_0603_XR7
designator C?  value 1nF  Voltage Rating: 50V
CAP CER 1NF 50V X7R 0603; Manufacturer: KYOCERA AVX; Manufacturer Part Number: 06035C102KAT2A; Dielectric: X7R; Package: 0603; Supplier 1: Digi-Key; Supplier Part Number 1: 478-1215-2-ND
footprint cap0603
pins: 1, 2

## CAP_1UF_10V_0402_X5R
designator C?  Capacitance: 1μF  Rated DC Voltage (URdc): 10V
CAP CER 1UF 10V X5R 0402; Manufacturer: Kyocera AVX; Manufacturer Part Number: 0402ZD105MAT2A; Supplier 1: Digi-Key; Supplier Part Number 1: 478-5768-1-ND; Mounting Type: Surface Mount; Package: 0402; Temperature Characteristics Code: X5R; ComponentLink7URL: https://datasheet.ciiva.com/11531/cx5r-11531784.pdf?src-supplier=Avnet; ComponentLink7Description: https://datasheet.ciiva.com/11531/cx5r-11531784.pdf?src-supplier=Avnet
footprint CAP0402 (Chip Capacitor, Body 1x0.5mm, Height 0.35mm, IPC Medium Density)
pins: 1, 2

## CAP_1uF_16V_0603
designator C?  value 1μF  Voltage Rating: 16V
CAP CER 1UF 16V Y5V 0603; Manufacturer 1: Yageo; Manufacturer Part Number 1: CC0603ZRY5V7BB105; Supplier Part Number 1: 311-1372-1-ND; Supplier 1: Digi-Key; Mounting Type: SMD; Package: 0603; Dielectric: Y5V
footprint CAP0603
pins: 1, 2

## CAP_1uF_16V_0805
designator C?  value 1μF  Voltage Rating: 16V
CAP CER 1UF 16V X7R 0805; Manufacturer 1: Yageo; Manufacturer Part Number 1: CC0805KKX7R7BB105; Mounting Type: SMD; Supplier 1: Digi-Key; Supplier Part Number 1: 311-1365-1-ND; Package: 0805; Dielectric: X7R
footprint CAP0805 (Chip Capacitor, Body 2.0x1.2mm, Height 0.45mm, IPC Medium Density)
pins: 1, 2

## CAP_1uF_25V_0402
designator C?  value 1μF  Voltage: 25V
CAP CER 1UF 25V X5R 0402; Manufacturer 1: TDK Corporation; Manufacturer Part Number 1: C1005X5R1E105K050BE; Supplier 1: Digi-Key; Supplier Part Number 1: 445-175215-1-ND; Package: 0402
footprint CAP0402 (Chip Capacitor, Body 1x0.5mm, Height 0.35mm, IPC Medium Density)
pins: 1, 2

## CAP_1uF_25V_0603
designator C?  value 1μF  Voltage Rating: 25V
CAP CER 1UF 25V X5R 0603; Manufacturer 1: Samsung; Manufacturer Part Number 1: CL10A105KA8NNNC; Supplier 1: Digi-Key; Mounting Type: SMD; Package: 0603; Supplier Part Number 1: 1276-1102-1-ND; Dielectric: X5R
footprint CAP0603
pins: 1, 2

## CAP_1uF_25V_0805
designator C?  value 1μF  Voltage Rating: 25V
CAP CER 1UF 25V X7R 0805; Manufacturer 1: Murata; Manufacturer Part Number 1: GCM21BR71E105KA56L; Supplier 1: Digi-Key; Supplier Part Number 1: 490-4785-1-ND; Dielectric: X7R
footprint CAP2012
pins: 1, 2
text: 0805

## CAP_1uF_50V_0603
designator C?  value 1μF  Voltage Rating: 50V
CAP CER 1UF 50V X6S 0603; Manufacturer Part Number 1: C1608X6S1H105K080AC; Manufacturer 1: TDK Corporation; Supplier Part Number 1: 445-7424-1-ND; Supplier 1: Digi-Key; Dielectric: X6S
footprint CAP0603
pins: 1, 2
text: 0603

## CAP_1uF_50V_0805
designator C?  value 1μF  Voltage Rating: 50V  (hidden comment: CAP_1uF_50V_0805)
CAP CER 1UF 50V X7R 0805; Manufacturer Part Number 1: CL21B105KBFNNNG; Manufacturer 1: Samsung Electro-Mechanics; Supplier Part Number 1: 1276-6470-1-ND; Supplier 1: Digi-Key; Mounting Type: SMD; LCSC Part #: C28323; Package: 0805
footprint CAP2012
footprint CAP0805 (Chip Capacitor, Body 2.0x1.2mm, Height 0.45mm, IPC Medium Density)
pins: 1, 2

## CAP_1uF_100V_0805
designator C?  value 1μF  Voltage Rating: 100V
CAP CER 1UF 100V X7S 0805; Supplier 1: Digi-Key; Mounting Type: SMD; Package: 0805; Supplier Part Number 1: 490-14464-1-ND
footprint CAP0805 (Chip Capacitor, Body 2.0x1.2mm, Height 0.45mm, IPC Medium Density)
pins: 1, 2

## CAP_1uF_100V_1206
designator C?  value 1μF  Voltage Rating: 100V
CAP CER 1UF 100V X7R 1206; Supplier 1: Digi-Key; Mounting Type: SMD; Package: 1206; Supplier Part Number 1: 490-16468-1-ND
footprint CAPC3216X190X50NL20T25 (Chip Capacitor, 2-Leads, Body 3.20x1.60mm, IPC Medium Density)
pins: 1, 2

## CAP_1uF_100V_FILM
designator C?  value 1μF  Voltage Rating: 100V
FIX CAP FILM 1UF 100V RADIAL; Manufacturer 1: WIMA; Manufacturer Part Number 1: MKS2D031001A00MSSD; Dielectric: PET; Supplier 1: Digi-Key; Supplier Part Number 1: 1928-1656-ND
footprint MKS2D031001A00MSSD
pins: 1, 2

## CAP_1uF_200V_0603
designator C?  value 1μF  Voltage Rating: 200V
CAP CER 1UF 35V X5R 0603; Manufacturer 1: KEMET; Manufacturer Part Number 1: C0603C103K2REC7867; Manufacturer: Taiyo Yuden; Supplier 1: Digi-Key; Supplier Part Number 1: 399-14173-1-ND; Dielectric: X5R; Mounting Type: Surface Mount; Package: 0603
pins: 1, 2

## CAP_2.2uF_25V_0603
designator C?  value 2.2μF  Voltage Rating: 25V
CAP CER 2.2UF 25V X5R 0603; Manufacturer Part Number 1: C1608X5R1E225K080AB; Manufacturer 1: TDK Corporation; Dielectric: 5; Supplier Part Number 1: 445-5964-1-ND; Supplier 1: Digi-Key
footprint CAP0603
pins: 1, 2
text: 0603

## CAP_2.2uF_25V_0805
designator C?  value 2.2μF  Voltage Rating: 25V
CAP CER 2.2UF 25V X7R 0805; Manufacturer Part Number 1: CL21B225KAFNNWE; Manufacturer 1: Samsung Electro-Mechanics; Supplier Part Number 1: 1276-2955-1-ND; Supplier 1: Digi-Key; Mounting Type: SMD; Package: 0805; LCSC Part #: C49217
footprint CAP2012
pins: 1, 2

## CAP_2.2uF_35V_0603
designator C?  value 2.2μF  Voltage Rating: 35V
CAP CER 2.2UF 35V X5R 0603; Manufacturer Part Number 1: C1608X5R1V225K080AC; Manufacturer 1: TDK Corporation; Dielectric: 5; Supplier Part Number 1: 445-8025-1-ND; Supplier 1: Digi-Key
footprint CAP0603
pins: 1, 2
text: 0603

## CAP_2.2uF_50V_1206
designator C?  value 2.2μF  Voltage Rating: 50V
CAP CER 2.2UF 50V X7R 1206; Manufacturer 1: Murata Electronics; Manufacturer Part Number 1: GCM31CR71H225KA55L; Supplier Part Number 1: 490-4796-1-ND; Supplier 1: Digi-Key; Dielectric: X7R
footprint CAP1206 (Chip Capacitor, Body 3.2x1.6mm, Height 0.55mm, IPC Medium Density)
pins: 1, 2
text: 1206

## CAP_2.2uF_100V_1210
designator C?  value 2.2μF  Voltage Rating: 100V
CAP CER 2.2UF 100V X7R 1210; Manufacturer 1: Taiyo Yuden; Manufacturer Part Number 1: HMK325B7225KMHP; Dielectric: X7R; Supplier 1: Digi-Key; Supplier Part Number 1: 587-5396-1-ND
footprint CAP1210
pins: 1, 2
text: 1210

## CAP_2.2uF_100V_1210_1
designator C?  value 2.2μF  Voltage Rating: 100V
CAP CER 2.2UF 100V X7R 1210; Manufacturer 1: TDK Corporation; Manufacturer Part Number 1: C3225X7R2A225K230AB; Package/Footprint: 1210; Supplier 1: Digi-Key; Supplier Part Number 1: 445-4497-1-ND; Mounting Type: SMD
footprint CAP1210
pins: 1, 2

## CAP_2.7nF_50V_0603
designator C?  value 2.7nF  Voltage Rating: 50V
CAP CER 2700PF 50V X7R 0603; Manufacturer Part Number 1: GRM1885C1H272JA01D; Manufacturer 1: Murata Electronics; Dielectric: C0G; Supplier Part Number 1: 490-3283-1-ND; Supplier 1: Digi-Key
footprint CAP0603
pins: 1, 2
text: 0603

## CAP_2.7nF_50V_0805
designator C?  value 2.7nF  Voltage Rating: 50V
CAP CER 2700PF 50V C0G 0805; Manufacturer 1: TDK Corporation; Manufacturer Part Number 1: C2012C0G1H272J060AA; Package/Footprint: 0805; Supplier 1: Digi-Key; Supplier Part Number 1: 445-7508-1-ND
footprint CAP0805 (Chip Capacitor, Body 2.0x1.2mm, Height 0.45mm, IPC Medium Density)
pins: 1, 2

## CAP_3.3uF_100V_1210
designator C?  value 3.3μF  Voltage Rating: 100V
CAP CER 3.3UF 100V X7S 1210; Manufacturer 1: TDK Corporation; Manufacturer Part Number 1: C3225X7S2A335K200AB; Package/Footprint: 1210; Supplier 1: Digi-Key; Supplier Part Number 1: 445-5209-1-ND
footprint CAP1210
pins: 1, 2

## CAP_4.3nF_50V_0805
designator C?  value 4.3nF  Voltage Rating: 50V
CAP CER 4.3nF 50V C0G/NP0 0805; Manufacturer Part Number 1: C0805C432J5GAC7800; Manufacturer 1: KEMET; Supplier Part Number 1: 399-15050-6-ND; Supplier 1: Digi-Key; Mounting Type: SMD; Package: 0805
footprint CAP2012
pins: 1, 2

## CAP_4.7nF_2kV_1210
designator C?  value 4.7nF  Voltage Rating: 2.5kV
CAP CER 4700PF 2KV X7R 1210; Manufacturer 1: KEMET; Manufacturer Part Number 1: C1210C472KGRACTU; Supplier 1: Digi-Key; Dielectric: X7R; Capacitance: 4.7nF; Supplier Part Number 1: 399-7104-1-ND
footprint CAP1210
pins: 1, 2
1 alternate drawing of the same symbol
text: 1210

## CAP_4.7uF_16V_0603
designator C?  value 4.7μF  Voltage Rating: 16V
CAP CER 4.7UF 16V X6S 0603; Manufacturer Part Number 1: GRM188C81C475KE11D; Manufacturer 1: Murata Electronics; Supplier Part Number 1: 490-13362-1-ND; Supplier 1: Digi-Key; Mounting Type: SMD; Package: 0603; Dielectric: X6S
footprint CAP0603
pins: 1, 2

## CAP_4.7uF_16V_0805
designator C?  value 4.7μF  Voltage Rating: 16V
CAP CER 4.7UF 16V X5R 0805; Manufacturer 1: Samsung Electro-Mechanics; Manufacturer Part Number 1: CL21A475KOFNNNE; Mounting Type: SMD; Supplier 1: Digi-Key; Supplier Part Number 1: 1276-1065-1-ND; Package: 0805; LCSC Part #: C1779; Dielectric: X5R
footprint CAP0805 (Chip Capacitor, Body 2.0x1.2mm, Height 0.45mm, IPC Medium Density)
pins: 1, 2

## CAP_4.7uF_25V_1210
designator C?  value 4.7μF  Voltage Rating: 25V
CAP CER 4.7UF 25V X8L 1210; Manufacturer 1: Murata Electronics; Manufacturer Part Number 1: GCJ32EL81E475KA01L; Supplier 1: Digi-Key; Supplier Part Number 1: 490-16465-1-ND; Dielectric: X8L
footprint CAPC3225X280N
pins: 1, 2
text: 1210

## CAP_4.7uF_50V_0805
designator C?  value 4.7μF  Voltage Rating: 50V
CAP CER 4.7UF 50V X5R 0805; Manufacturer 1: TDK Corporation; Manufacturer Part Number 1: CGA4J3X5R1H475K125AB; Mounting Type: SMD; Supplier 1: Digi-Key; Supplier Part Number 1: 445-7882-1-ND; Package: 0805; LCSC Part #: C1779; Dielectric: X5R
footprint CAP0805 (Chip Capacitor, Body 2.0x1.2mm, Height 0.45mm, IPC Medium Density)
pins: 1, 2

## CAP_4.7uF_50V_1206
designator C?  value 4.7μF  Voltage Rating: 50V
CAP CER 4.7UF 50V X7R 1206; Manufacturer 1: Murata; Manufacturer Part Number 1: GRM31CR71H475KA12L; Supplier 1: Digi-Key; Mounting Type: SMD; Supplier Part Number 1: 490-6521-1-ND; Dielectric: X7R; Package: 1206
footprint CAP1206 (Chip Capacitor, Body 3.2x1.6mm, Height 0.55mm, IPC Medium Density)
pins: 1, 2

## CAP_4.7uF_100V_2220
designator C?  value 4.7μF  Voltage Rating: 100V
CAP CER 4.7UF 100V X7R 2220; Manufacturer 1: TDK Corporation; Manufacturer Part Number 1: C5750X7R2A475M230KA; Supplier Part Number 1: 445-1450-1-ND; Supplier 1: Digi-Key; Dielectric: X7R
footprint CAPC5750X7R2A
pins: 1, 2
text: 2220

## CAP_6.8nF_50V_0805
designator C?  value 6.8nF  Voltage Rating: 50V
CAP CER 6800PF 50V C0G/NP0 0805; Manufacturer 1: Murata Electronics; Manufacturer Part Number 1: GRM2195C1H682JA01D; Package/Footprint: 0805; Supplier 1: Digi-Key; Supplier Part Number 1: 490-1638-6-ND
footprint CAP0805 (Chip Capacitor, Body 2.0x1.2mm, Height 0.45mm, IPC Medium Density)
pins: 1, 2

## CAP_6.8nF_V_0805_0.1pF
designator C?  value 6.8pF  Voltage Rating: 100V
CAP CER 6.8pF 100V C0G/NP0 0805; Manufacturer Part Number 1: CBR08C689B1GAC; Manufacturer 1: KEMET; Supplier Part Number 1: 399-8705-6-ND; Supplier 1: Digi-Key; Mounting Type: SMD; Package: 0805
footprint CAP2012
pins: 1, 2

## CAP_6.8pF_100V_0805_0.1pF
designator C?  value 6.8pF  Voltage Rating: 100V
CAP CER 6.8pF 100V C0G/NP0 0805; Manufacturer Part Number 1: CBR08C689B1GAC; Manufacturer 1: KEMET; Supplier Part Number 1: 399-8705-6-ND; Supplier 1: Digi-Key; Mounting Type: SMD; Package: 0805
footprint CAP2012
pins: 1, 2

## CAP_8.2nF_16V_0402
designator C?  Capacitance: 8.2nF  Voltage: 16V
CAP CER 8200PF 16V X7R 0402; Manufacturer 1: Yageo; Manufacturer Part Number 1: CC0402KRX7R7BB822; Supplier 1: Digi-Key; Supplier Part Number 1: 311-1041-1-ND; Package: 0402
footprint CAP0402 (Chip Capacitor, Body 1x0.5mm, Height 0.35mm, IPC Medium Density)
pins: 1, 2

## CAP_10nF_16V_0805
designator C?  value 10nF  Voltage Rating: 16V
CAP CER 10000PF 16V X7R 0805; Manufacturer 1: Yageo; Manufacturer Part Number 1: AC0805KRX7R7BB103; Supplier 1: Digi-Key; Supplier Part Number 1: 311-3161-1-ND
footprint CAP2012
footprint CAP0805 (Chip Capacitor, Body 2.0x1.2mm, Height 0.45mm, IPC Medium Density)
pins: 1, 2
text: 0805

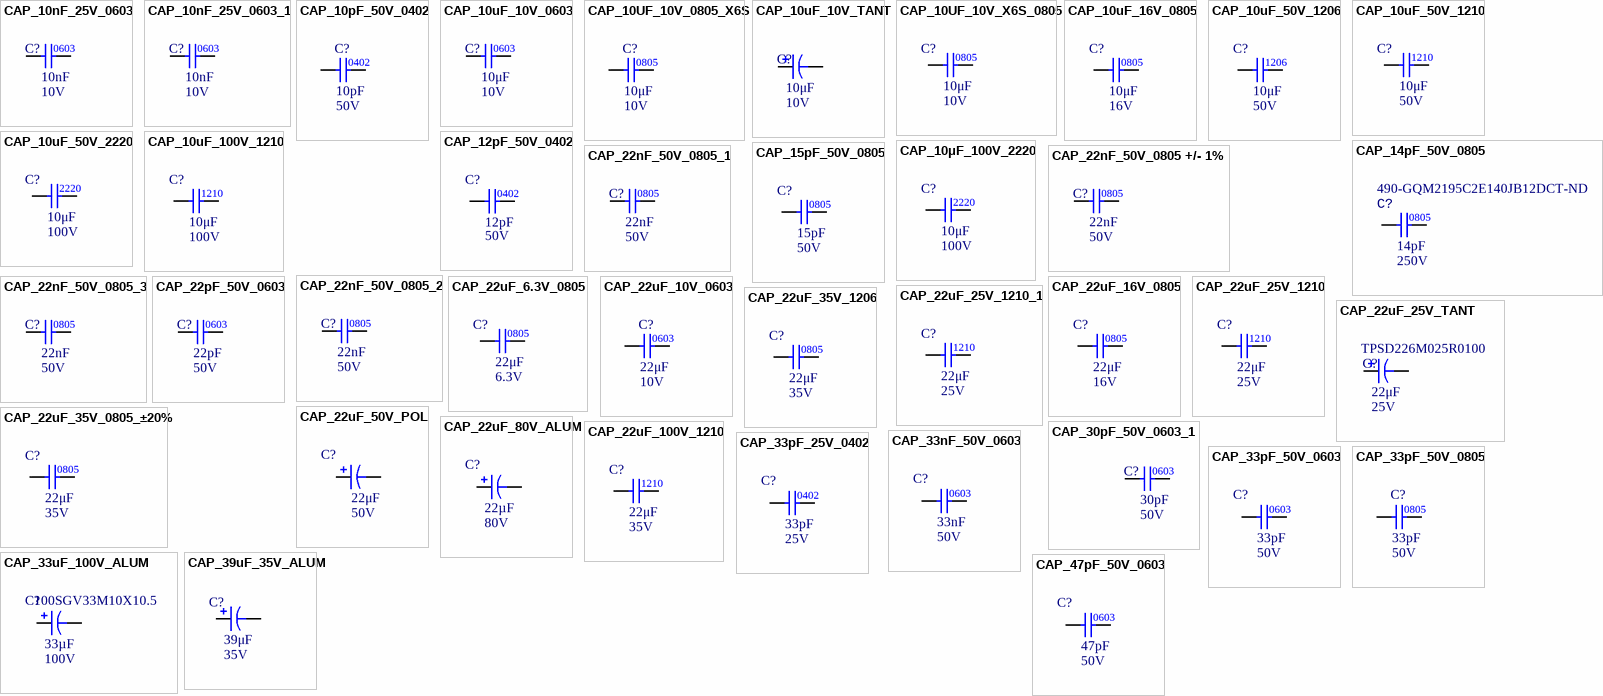
[diagram p3: symbols CAP_10nF_25V_0603 to CAP_47pF_50V_0603]

## CAP_10nF_25V_0603
designator C?  value 10nF  Voltage Rating: 10V
CAP CER 10000PF 25V C0G 0603; Manufacturer Part Number 1: C1608C0G1E103J080AA; Manufacturer 1: Yageo; Supplier Part Number 1: 445-2664-1-ND; Supplier 1: Digi-Key; Dielectric: C0G
footprint CAP0603
pins: 1, 2
text: 0603

## CAP_10nF_25V_0603_1
designator C?  value 10nF  Voltage Rating: 10V
CAP CER 10000PF 25V C0G 0603; Manufacturer Part Number 1: C1608C0G1E103J080AA; Manufacturer 1: Yageo; Supplier Part Number 1: 445-2664-1-ND; Supplier 1: Digi-Key; Dielectric: C0G
footprint CAP0603
pins: 1, 2
text: 0603

## CAP_10pF_50V_0402
designator C?  value 10pF  Voltage Rating: 50V
CAP CER 10PF 50V C0G/NPO 0402; Manufacturer 1: Yageo; Package: 0402; Supplier 1: Digi-Key; Supplier Part Number 1: 311-1014-1-ND; Manufacturer Part Number 1: CAP CER 10PF 50V C0G/NPO 0402
footprint CAP0402 (Chip Capacitor, Body 1x0.5mm, Height 0.35mm, IPC Medium Density)
pins: 1, 2

## CAP_10uF_10V_0603
designator C?  value 10μF  Voltage Rating: 10V
CAP CER 10UF 10V X5R 0603; Manufacturer Part Number 1: CC0603MRX5R6BB106; Manufacturer 1: Yageo; Supplier Part Number 1: 311-1817-1-ND; Supplier 1: Digi-Key; Dielectric: X5R
footprint CAP0603
pins: 1, 2
text: 0603

## CAP_10UF_10V_0805_X6S
designator C?  value 10μF  Voltage: 10V
CAP CER 10UF 10V X6S 0805; Manufacturer: Taiyo Yuden; Manufacturer Part Number: LMK212AC6106MD-T; Supplier 1: Digi-Key; Supplier Part Number 1: 587-6337-1-ND; Package: 0805
footprint CAP0805 (Chip Capacitor, Body 2.0x1.2mm, Height 0.45mm, IPC Medium Density)
pins: 1, 2

## CAP_10uF_10V_TANT
designator C?  value 10μF  Voltage Rating: 10V
CAP TANT 10UF 20% 10V 1411; Manufacturer Part Number 1: F971A106MBAHT3; Manufacturer 1: AVX Corporation; Supplier Part Number 1: 478-12047-1-ND; Supplier 1: Digi-Key
footprint AVX-CAPC3528_V (SMT Capacitor, 2 Leads, Body 3.5x2.8mm)
pins: 1, 2

## CAP_10UF_10V_X6S_0805
designator C?  value 10μF  Voltage Rating: 10V
CAP CER 10UF 10V X6S 0805; Manufacturer 1: Taiyo Yuden; Manufacturer Part Number 1: LMK212AC6106MD-T; Supplier 1: Digi-Key; Supplier Part Number 1: 587-6337-1-ND; Package: 0805
footprint CAP0805 (Chip Capacitor, Body 2.0x1.2mm, Height 0.45mm, IPC Medium Density)
pins: 1, 2

## CAP_10uF_16V_0805
designator C?  value 10μF  Voltage Rating: 16V
CAP CER 10UF 16V X5R 0805; Manufacturer 1: Yageo; Manufacturer Part Number 1: CC0805KKX5R7BB106; Package/Footprint: 0805; Mounting Type: SMD; Supplier 1: Digi-Key; Supplier Part Number 1: 311-1865-1-ND; Dielectric: X5R
footprint CAP0805 (Chip Capacitor, Body 2.0x1.2mm, Height 0.45mm, IPC Medium Density)
pins: 1, 2

## CAP_10uF_50V_1206
designator C?  value 10μF  Voltage Rating: 50V
CAP CER 10UF 50V X5R 1206; Manufacturer 1: Murata; Manufacturer Part Number 1: GRT31CR61H106KE01L; Supplier Part Number 1: 490-12456-1-ND; Supplier 1: Digi-Key; Mounting Type: SMD; Package: 1206; Dielectric: X5R
footprint CAP1206 (Chip Capacitor, Body 3.2x1.6mm, Height 0.55mm, IPC Medium Density)
pins: 1, 2

## CAP_10uF_50V_1210
designator C?  value 10μF  Voltage Rating: 50V
CAP CER 10UF 50V X7R 1210; Manufacturer 1: Murata Electronics; Manufacturer Part Number 1: GRM32ER71H106MA12L; Dielectric: X7R; Supplier 1: Digi-Key; Supplier Part Number 1: 490-12775-1-ND
footprint CAP1210
pins: 1, 2
text: 1210

## CAP_10uF_50V_2220
designator C?  value 10μF  Voltage Rating: 100V
CAP CER 10UF 100V X7S 2220; Manufacturer 1: TDK Corporation; Manufacturer Part Number 1: C5750X7S2A106K230KB; Dielectric: X7S; Supplier 1: Digi-Key; Supplier Part Number 1: 445-13408-1-ND
footprint C5750X7S2A106M230KB
footprint CAP2220
pins: 1, 2
text: 2220

## CAP_10uF_100V_1210
designator C?  value 10μF  Voltage Rating: 100V
CAP CER 10uF 100V X7S 10% 1210; Manufacturer 1: Murata; Manufacturer Part Number 1: GRM32EC72A106KE05L; Supplier 1: Digi-Key; Mounting Type: SMD; Supplier Part Number 1: 490-16266-1-ND; Package: 1210; Dielectric: X7S
footprint CAP1210
pins: 1, 2

## CAP_10μF_100V_2220
designator C?  value 10μF  Voltage Rating: 100V
CAP CER 10UF 100V X7S 2220; Manufacturer 1: TDK Corporation; Manufacturer Part Number 1: CGA9N3X7S2A106K230KE; Mounting Type: SMD; Package: 2220; Supplier 1: Digi-Key; Supplier Part Number 1: 445-8768-1-ND
footprint CAP2220
pins: 1, 2

## CAP_12pF_50V_0402
designator C?  value 12pF  Voltage Rating: 50V
CAP CER 12PF 50V C0G 0402; Manufacturer Part Number 1: CC0603KRX7R9BB104; Manufacturer 1: TDK Corporation; Package/Footprint: 0402; Dielectric: C0G, NP0; Supplier Part Number 1: 445-5585-1-ND; Supplier 1: Digi-Key; Mounting Type: SMD
footprint CAP0402 (Chip Capacitor, Body 1x0.5mm, Height 0.35mm, IPC Medium Density)
pins: 1, 2

## CAP_14pF_50V_0805
designator C?  value 14pF  Voltage Rating: 250V  Supplier Part Number 1: 490-GQM2195C2E140JB12DCT-ND
CERAMIC CAP MLCC HIGH-Q 125C; Manufacturer: Murata Electronics; Manufacturer Part Number: GQM2195C2E140JB12D; Mounting Type: SMD; Package: 0805; Supplier 1: Digi-Key
footprint CAP0805 (Chip Capacitor, Body 2.0x1.2mm, Height 0.45mm, IPC Medium Density)
pins: 1, 2

## CAP_15pF_50V_0805
designator C?  value 15pF  Voltage Rating: 50V
CAP CER 15PF 50V C0G/NP0 0805; Manufacturer 1: AVX Corporation; Manufacturer Part Number 1: 08055A150JAT2A; Package/Footprint: 0805; Supplier 1: Digi-Key; Supplier Part Number 1: 478-1306-1-ND
footprint CAP0805 (Chip Capacitor, Body 2.0x1.2mm, Height 0.45mm, IPC Medium Density)
pins: 1, 2

## CAP_22nF_50V_0805 +/- 1%
designator C?  value 22nF  Voltage Rating: 50V
CAP CER 22nF 50V 0805; Manufacturer Part Number 1: GCM21B5C1H223FA16L; Manufacturer 1: Murata Electronics; Supplier Part Number 1: 490-GCM21B5C1H223FA16LCT-ND; Supplier 1: Digi-Key; Mounting Type: SMD; Package: 0805
footprint CAP2012
pins: 1, 2

## CAP_22nF_50V_0805_1
designator C?  value 22nF  Voltage Rating: 50V
CAP CER 22nF 50V 0805; Manufacturer Part Number 1: CL21B223KBANFNC; Manufacturer 1: KEMET; Supplier Part Number 1: 1276-2488-1-ND; Supplier 1: Digi-Key; Mounting Type: SMD; Package: 0805
footprint CAP2012
pins: 1, 2

## CAP_22nF_50V_0805_2
designator C?  value 22nF  Voltage Rating: 50V
CAP CER 22nF 50V 0805; Manufacturer Part Number 1: CL21B223KBANFNC; Manufacturer 1: KEMET; Supplier Part Number 1: 1276-2488-1-ND; Supplier 1: Digi-Key; Mounting Type: SMD; Package: 0805
footprint CAP2012
pins: 1, 2

## CAP_22nF_50V_0805_3
designator C?  value 22nF  Voltage Rating: 50V
CAP CER 22nF 50V 0805; Manufacturer Part Number 1: CL21B223KBANFNC; Manufacturer 1: KEMET; Supplier Part Number 1: 1276-2488-1-ND; Supplier 1: Digi-Key; Mounting Type: SMD; Package: 0805
footprint CAP2012
pins: 1, 2

## CAP_22pF_50V_0603
designator C?  value 22pF  Voltage Rating: 50V
CAP CER 22PF 50V C0G/NPO 0603; Manufacturer Part Number 1: CC0603JRNPO9BN220; Manufacturer 1: Yageo; Dielectric: C0G; Supplier Part Number 1: 311-1062-1-ND; Supplier 1: Digi-Key
footprint CAP0603
pins: 1, 2
text: 0603

## CAP_22uF_6.3V_0805
designator C?  value 22μF  Voltage Rating: 6.3V
CAP CER 22UF 6.3V X5R 0805; Manufacturer 1: Murata Electronics; Manufacturer Part Number 1: GRM188R60J226MEA0D; Dielectric: X5R; Supplier 1: Digi-Key; Supplier Part Number 1: 490-7611-2-ND
footprint CAP2012
pins: 1, 2
text: 0805

## CAP_22uF_10V_0603
designator C?  value 22μF  Voltage Rating: 10V
CAP CER 22UF 10V X5R 0603; Manufacturer: Taiyo Yuden; Manufacturer Part Number: LMK107BBJ226MA-T; Supplier 1: Digi-Key; Supplier Part Number 1: 587-4913-1-ND; Package: 0603
footprint CAP0603
pins: 1, 2

## CAP_22uF_16V_0805
designator C?  value 22μF  Voltage Rating: 16V
CAP CER 22UF 16V X5R 0805; Manufacturer 1: Murata Electronics; Manufacturer Part Number 1: GRM219R61C226ME15L; Package/Footprint: 0805; Mounting Type: SMD; Supplier 1: Digi-Key; Supplier Part Number 1: 490-9952-1-ND; Dielectric: X5R
footprint CAP2012
pins: 1, 2

## CAP_22uF_25V_1210
designator C?  value 22μF  Voltage Rating: 25V
CAP CER 22UF 25V X7R 1210; Manufacturer 1: Murata Electronics; Manufacturer Part Number 1: GRM32ER71E226ME15K; Package/Footprint: 1210; Supplier 1: Digi-Key; Supplier Part Number 1: 490-14682-1-ND; Mounting Type: SMD
footprint CAPC3225X270N
pins: 1, 2

## CAP_22uF_25V_1210_1
designator C?  value 22μF  Voltage Rating: 25V
CAP CER 22UF 25V X7R 1210; Manufacturer 1: Murata Electronics; Manufacturer Part Number 1: GRM32ER71E226ME15K; Package/Footprint: 1210; Supplier 1: Digi-Key; Supplier Part Number 1: 490-14682-1-ND; Mounting Type: SMD
footprint CAPC3225X270N
pins: 1, 2

## CAP_22uF_25V_TANT
designator C?  value 22μF  Voltage Rating: 25V  Supplier Part Number 1: TPSD226M025R0100
CAP TANT 22UF 20% 25V 2917; Manufacturer Part Number 1: F971A106MBAHT3; Manufacturer 1: AVX Corporation; Supplier 1: Arrow Electronics
footprint CAP2917
pins: 1, 2

## CAP_22uF_35V_0805_±20%
designator C?  value 22μF  Voltage Rating: 35V
CAP CER 22UF 35V 0805 ±20%; Manufacturer 1: TDK Corporation; Manufacturer Part Number 1: C2012X5R1V226M125AC; Package/Footprint: 0805; Supplier 1: Digi-Key; Supplier Part Number 1: 445-14428-1-ND; Mounting Type: SMD
footprint CAP0805 (Chip Capacitor, Body 2.0x1.2mm, Height 0.45mm, IPC Medium Density)
pins: 1, 2

## CAP_22uF_35V_1206
designator C?  value 22μF  Voltage Rating: 35V
CAP CER 22UF 35V X5R 1206; Manufacturer 1: TDK Corporation; Manufacturer Part Number 1: C3216X5R1V226M160AC; Package/Footprint: 1205; Mounting Type: Surface Mount; Supplier 1: Digi-Key; Supplier Part Number 1: 445-8045-1-ND; Dielectric: X5R
footprint CAP1206 (Chip Capacitor, Body 3.2x1.6mm, Height 0.55mm, IPC Medium Density)
pins: 1, 2
text: 0805

## CAP_22uF_50V_POL
designator C?  value 22μF  Voltage Rating: 50V
CAP ALUM 22UF 20% 50V RADIAL; Manufacturer 1: Würth Elektronik; Manufacturer Part Number 1: 860020672011; Package/Footprint: TH; Supplier Part Number 1: 732-8857-1-ND; Supplier 1: Digi-Key; Mounting Type: TH; LCSC Part #: *
footprint CAPR-2/4h6.8
pins: 1, 2
1 alternate drawing of the same symbol

## CAP_22uF_80V_ALUM
designator C?  value 22µF  Voltage Rating: 80V
CAP ALUM POLY 22UF 20% 80V SMD; Manufacturer 1: KEMET; Manufacturer Part Number 1: A767KN226M1KLAE045; Mounting Type: SMD; Supplier 1: Digi-Key; Supplier Part Number 1: 399-15649-1-ND
footprint RADIAL_KEMET_KN
pins: 1, 2

## CAP_22uF_100V_1210
designator C?  value 22μF  Voltage Rating: 35V
CAP CER 22UF 35V X5R 1210; Manufacturer 1: Taiyo Yuden; Manufacturer Part Number 1: GMK325BJ226MM-T; Package/Footprint: 1210; Supplier 1: Digi-Key; Supplier Part Number 1: 587-6141-1-ND; Mounting Type: SMD
footprint CAP1210
pins: 1, 2

## CAP_30pF_50V_0603_1
designator C?  value 30pF  Voltage Rating: 50V
30 pF ±5% 50V Ceramic Capacitor C0G, NP0 0603 (1608 Metric); Manufacturer Part Number 1: GCM188R71C334KA37D; Manufacturer 1: Murata Electronics North America; Dielectric: X7R; Supplier 1: Digikey; Supplier Part Number 1: 478-7917-1-ND
footprint CAP0603
pins: 1, 2
text: 0603